# EAGLE library part MKR12FUNO99_MILLER_PINHD-1X8 (library R3Mkr12F_Solar)
PIN HEADER
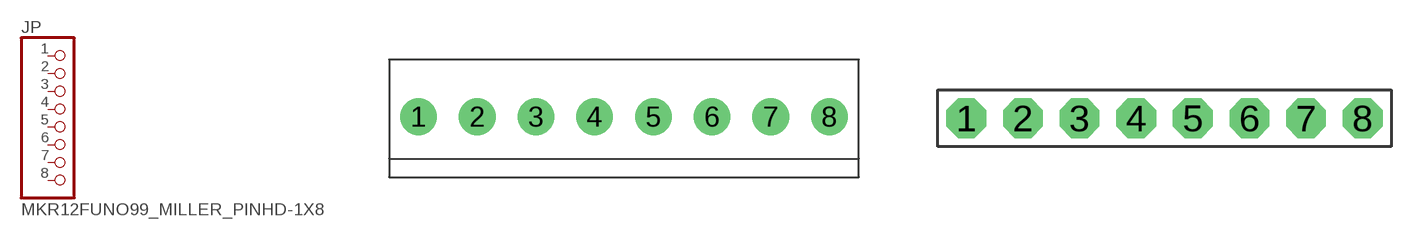
[diagram p2: symbol with the pads of MKR12FUNO99_MILLER_1X08-3.5MM; footprints MKR12FUNO99_MILLER_1X08-3.5MM, MKR12FUNO99_MILLER_1X08-BIG]

Designator prefix JP

## MKR12FUNO99_MILLER_PINHD-1X8-3.5MM  [MKR12FUNO99_MILLER_1X08-3.5MM]
1  1  pas
2  2  pas
3  3  pas
4  4  pas
5  5  pas
6  6  pas
7  7  pas
8  8  pas

## MKR12FUNO99_MILLER_PINHD-1X8BIG  [MKR12FUNO99_MILLER_1X08-BIG]
Pads as for MKR12FUNO99_MILLER_1X08-3.5MM

## MKR12FUNO99_MILLER_PINHD-1X8CLEANBIG  [MKR12FUNO99_MILLER_1X08-CLEANBIG]
Pads as for MKR12FUNO99_MILLER_1X08-3.5MM

## MKR12FUNO99_MILLER_PINHD-1X8LOCK  [MKR12FUNO99_MILLER_1X08-LOCK]
Pads as for MKR12FUNO99_MILLER_1X08-3.5MM

## MKR12FUNO99_MILLER_PINHD-1X8RIGHTANGLE_FEMALE  [MKR12FUNO99_MILLER_1X08-RA]
Pads as for MKR12FUNO99_MILLER_1X08-3.5MM

## Footprint MKR12FUNO99_MILLER_1X08-3.5MM (pad centres in mm)
drill 1 pad 2.184: 1 -12.25,0; 2 -8.75,0; 3 -5.25,0; 4 -1.75,0; 5 1.75,0; 6 5.25,0; 7 8.75,0; 8 12.25,0

## Footprint MKR12FUNO99_MILLER_1X08-BIG (pad centres in mm)
drill 1.016 pad 1.778 octagon: 1 -8.89,0; 2 -6.35,0; 3 -3.81,0; 4 -1.27,0; 5 1.27,0; 6 3.81,0; 7 6.35,0; 8 8.89,0

## Footprint MKR12FUNO99_MILLER_1X08-CLEANBIG (pad centres in mm)
drill 1.016 pad 1.778 octagon: 1 -8.89,0; 2 -6.35,0; 3 -3.81,0; 4 -1.27,0; 5 1.27,0; 6 3.81,0; 7 6.35,0; 8 8.89,0

## Footprint MKR12FUNO99_MILLER_1X08-LOCK (pad centres in mm)
drill 1.016 pad 1.778 square: 1 -8.89,0.127
drill 1.016 pad 1.778 octagon: 2 -6.35,-0.127; 3 -3.81,0.127; 4 -1.27,-0.127; 5 1.27,0.127; 6 3.81,-0.127; 7 6.35,0.127; 8 8.89,-0.127

## Footprint MKR12FUNO99_MILLER_1X08-RA (pad centres in mm)
1x8 pin header, right angle, female
drill 1.016 pad 1.778 octagon: 1 0,0; 2 2.54,0; 3 5.08,0; 4 7.62,0; 5 10.16,0; 6 12.7,0; 7 15.24,0; 8 17.78,0